# EAGLE library part 418121160807 (library 428427520910_Eagle_WS-ROTU_rev19b)
2.54 mm small compact SMD flat actuator with top tape WS-DISV,14 pins,7 poles <http://katalog.we-online.de/media/images/v2/Family_WS_IC_4181211608xx_pf2.jpg> Details see: http://katalog.we-online.de/en/em/DISV_2_54_SMALL_COMPACT_SMD_FLAT_ACTUATOR Updated:2017-04-14 2017 (C) Wurth Elektronik
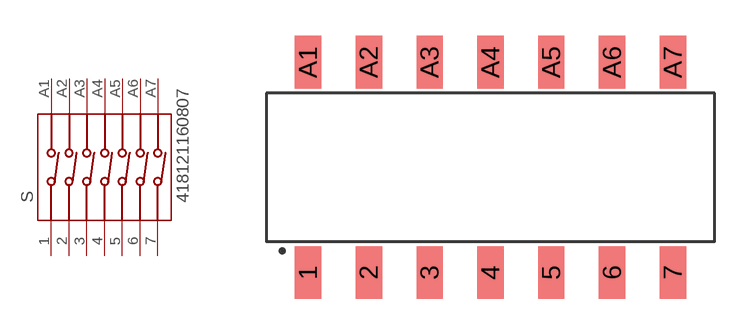
[diagram p28: symbol with the pads of 418121160807; footprint 418121160807]

Designator prefix S

## 418121160807  [418121160807]
1  1  pas
2  2  pas
3  3  pas
4  4  pas
5  5  pas
6  6  pas
7  7  pas
A1  A1  pas
A2  A2  pas
A3  A3  pas
A4  A4  pas
A5  A5  pas
A6  A6  pas
A7  A7  pas

## Footprint 418121160807 (pad centres in mm)
WS-IC-2.54 mm small compact SMD Dip Switch with top tape,14 pins,7 poles
smd 1.1 x 2.2: 1 -7.62,-4.4; 2 -5.08,-4.4; 3 -2.54,-4.4; 4 0,-4.4; 5 2.54,-4.4; 6 5.08,-4.4; 7 7.62,-4.4; A1 -7.62,4.4; A2 -5.08,4.4; A3 -2.54,4.4; A4 0,4.4; A5 2.54,4.4; A6 5.08,4.4; A7 7.62,4.4